# Altium schematic symbol library kmilo17pet-NSC_LDO.SchLib: 2675 symbols (part 48 of 65)
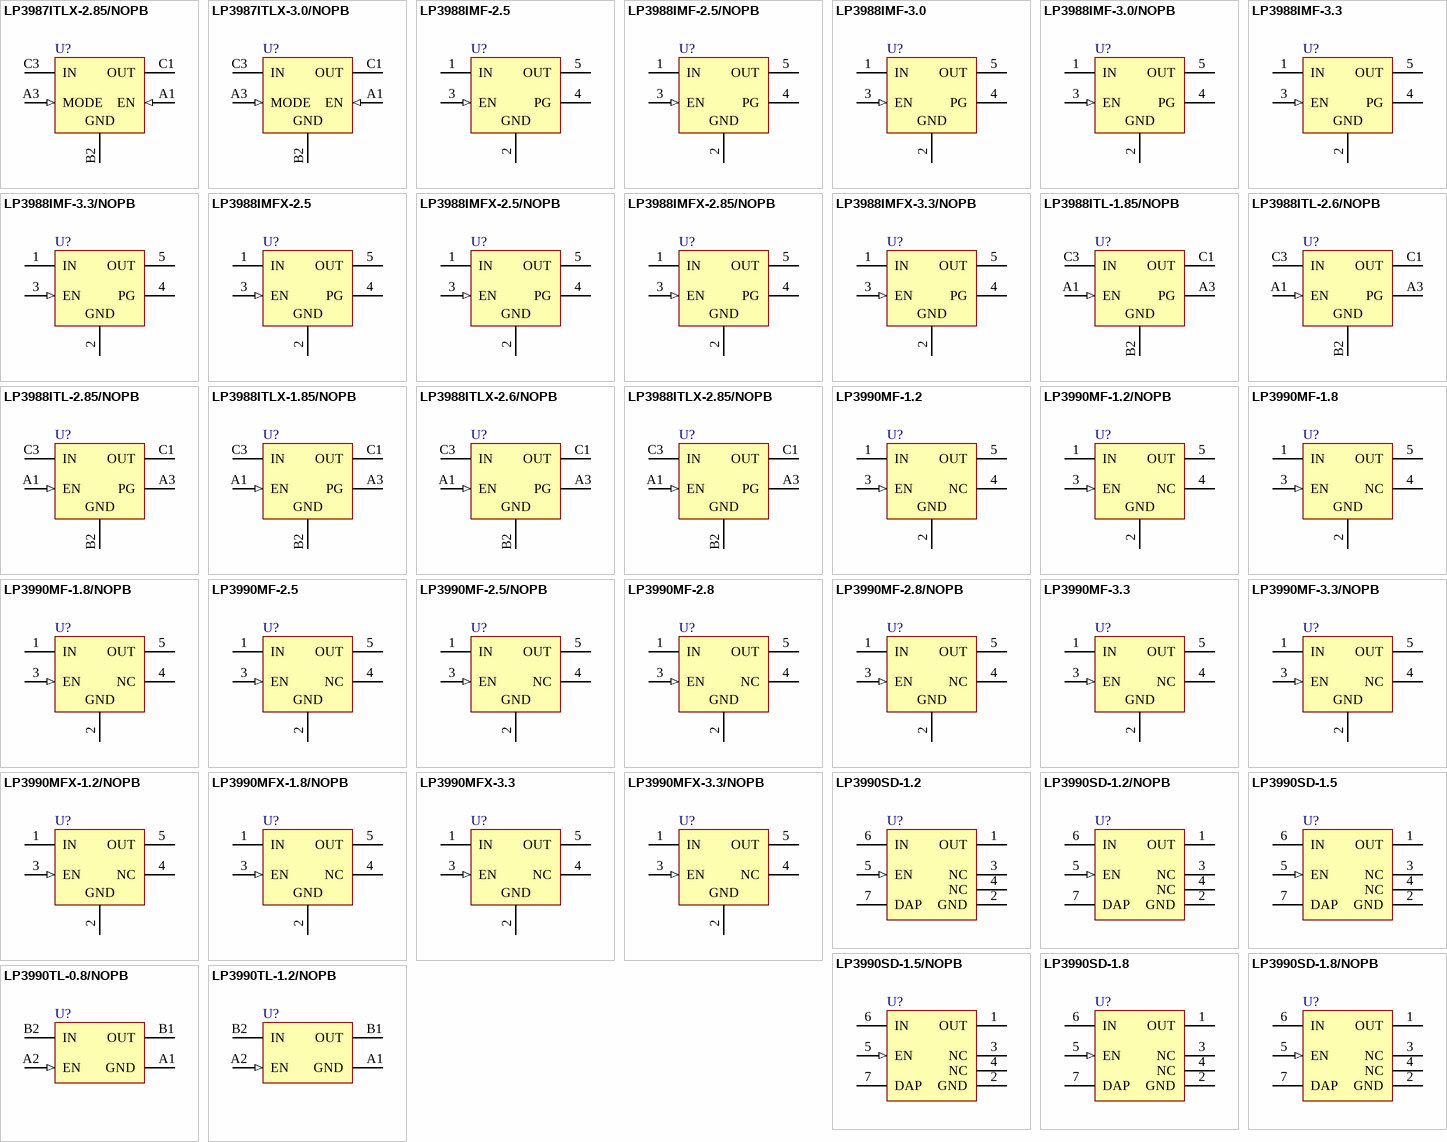
[diagram p114: symbols LP3987ITLX-2.85/NOPB to LP3990TL-1.2/NOPB]

## LP3990SD-1.2/NOPB
designator U?
150mA Linear Voltage Regulator for Digital Applications, 6-pin LLP, Pb-Free; PartNumber: LP3990SD-1.2/NOPB; Manufacturer: National Semiconductor; PackageTopMarking: ZXYTT*L086B; PowerWise: N; CompType: LDO IC; High-Reliability: Y; DatasheetVersion: Oct-2005; PackageVersion: revA, Jul-2003; PackageReference: SDE06A; PackageDescription: LLP, Plastic, Dual, 3 x 3 x 0.8mm Body, 6 Lead, 0.95mm Pitch, No Pullback; RoHS: Y; PinCount: 6; ComponentLink1Description: Manufacturer URL; ComponentLink1URL: http://www.national.com/; ComponentLink2Description: LP3990 Datasheet; ComponentLink2URL: http://www.national.com/ds/LP/LP3990.pdf; ComponentLink3Description: LP3990 Web Page; ComponentLink3URL: http://www.national.com/pf/LP/LP3990.html; ComponentLink4Description: SDE06A Package Page; ComponentLink4URL: http://www.national.com/packaging/folders/sde06a.html
footprint SDE06A_full (SON, 6-Leads, Body 3x3 mm, Pitch 0.95mm, Full Paste, NSC Recommended)
footprint SDE06A_quad (SON, 6-Leads, Body 3x3 mm, Pitch 0.95mm, Quad Paste, NSC Recommended)
pins: 1 OUT (power), 2 GND (power), 3 NC, 4 NC, 5 EN (in), 6 IN (power), 7 DAP (power)

## LP3990SD-1.5
designator U?
150mA Linear Voltage Regulator for Digital Applications, 6-pin LLP; PartNumber: LP3990SD-1.5; Manufacturer: National Semiconductor; PackageTopMarking: ZXYTT*L087B; PowerWise: N; CompType: LDO IC; High-Reliability: Y; DatasheetVersion: Oct-2005; PackageVersion: revA, Jul-2003; PackageReference: SDE06A; PackageDescription: LLP, Plastic, Dual, 3 x 3 x 0.8mm Body, 6 Lead, 0.95mm Pitch, No Pullback; RoHS: N; PinCount: 6; ComponentLink1Description: Manufacturer URL; ComponentLink1URL: http://www.national.com/; ComponentLink2Description: LP3990 Datasheet; ComponentLink2URL: http://www.national.com/ds/LP/LP3990.pdf; ComponentLink3Description: LP3990 Web Page; ComponentLink3URL: http://www.national.com/pf/LP/LP3990.html; ComponentLink4Description: SDE06A Package Page; ComponentLink4URL: http://www.national.com/packaging/folders/sde06a.html
footprint SDE06A_full (SON, 6-Leads, Body 3x3 mm, Pitch 0.95mm, Full Paste, NSC Recommended)
footprint SDE06A_quad (SON, 6-Leads, Body 3x3 mm, Pitch 0.95mm, Quad Paste, NSC Recommended)
pins: 1 OUT (power), 2 GND (power), 3 NC, 4 NC, 5 EN (in), 6 IN (power), 7 DAP (power)

## LP3990SD-1.5/NOPB
designator U?
150mA Linear Voltage Regulator for Digital Applications, 6-pin LLP, Pb-Free; PartNumber: LP3990SD-1.5/NOPB; Manufacturer: National Semiconductor; PackageTopMarking: ZXYTT*L087B; PowerWise: N; CompType: LDO IC; High-Reliability: Y; DatasheetVersion: Oct-2005; PackageVersion: revA, Jul-2003; PackageReference: SDE06A; PackageDescription: LLP, Plastic, Dual, 3 x 3 x 0.8mm Body, 6 Lead, 0.95mm Pitch, No Pullback; RoHS: Y; PinCount: 6; ComponentLink1Description: Manufacturer URL; ComponentLink1URL: http://www.national.com/; ComponentLink2Description: LP3990 Datasheet; ComponentLink2URL: http://www.national.com/ds/LP/LP3990.pdf; ComponentLink3Description: LP3990 Web Page; ComponentLink3URL: http://www.national.com/pf/LP/LP3990.html; ComponentLink4Description: SDE06A Package Page; ComponentLink4URL: http://www.national.com/packaging/folders/sde06a.html
footprint SDE06A_full (SON, 6-Leads, Body 3x3 mm, Pitch 0.95mm, Full Paste, NSC Recommended)
footprint SDE06A_quad (SON, 6-Leads, Body 3x3 mm, Pitch 0.95mm, Quad Paste, NSC Recommended)
pins: 1 OUT (power), 2 GND (power), 3 NC, 4 NC, 5 EN (in), 6 IN (power), 7 DAP (power)

## LP3990SD-1.8
designator U?
150mA Linear Voltage Regulator for Digital Applications, 6-pin LLP; PartNumber: LP3990SD-1.8; Manufacturer: National Semiconductor; PackageTopMarking: ZXYTT*L088B; PowerWise: N; CompType: LDO IC; High-Reliability: Y; DatasheetVersion: Oct-2005; PackageVersion: revA, Jul-2003; PackageReference: SDE06A; PackageDescription: LLP, Plastic, Dual, 3 x 3 x 0.8mm Body, 6 Lead, 0.95mm Pitch, No Pullback; RoHS: N; PinCount: 6; ComponentLink1Description: Manufacturer URL; ComponentLink1URL: http://www.national.com/; ComponentLink2Description: LP3990 Datasheet; ComponentLink2URL: http://www.national.com/ds/LP/LP3990.pdf; ComponentLink3Description: LP3990 Web Page; ComponentLink3URL: http://www.national.com/pf/LP/LP3990.html; ComponentLink4Description: SDE06A Package Page; ComponentLink4URL: http://www.national.com/packaging/folders/sde06a.html
footprint SDE06A_full (SON, 6-Leads, Body 3x3 mm, Pitch 0.95mm, Full Paste, NSC Recommended)
footprint SDE06A_quad (SON, 6-Leads, Body 3x3 mm, Pitch 0.95mm, Quad Paste, NSC Recommended)
pins: 1 OUT (power), 2 GND (power), 3 NC, 4 NC, 5 EN (in), 6 IN (power), 7 DAP (power)

## LP3990SD-1.8/NOPB
designator U?
150mA Linear Voltage Regulator for Digital Applications, 6-pin LLP, Pb-Free; PartNumber: LP3990SD-1.8/NOPB; Manufacturer: National Semiconductor; PackageTopMarking: ZXYTT*L088B; PowerWise: N; CompType: LDO IC; High-Reliability: Y; DatasheetVersion: Oct-2005; PackageVersion: revA, Jul-2003; PackageReference: SDE06A; PackageDescription: LLP, Plastic, Dual, 3 x 3 x 0.8mm Body, 6 Lead, 0.95mm Pitch, No Pullback; RoHS: Y; PinCount: 6; ComponentLink1Description: Manufacturer URL; ComponentLink1URL: http://www.national.com/; ComponentLink2Description: LP3990 Datasheet; ComponentLink2URL: http://www.national.com/ds/LP/LP3990.pdf; ComponentLink3Description: LP3990 Web Page; ComponentLink3URL: http://www.national.com/pf/LP/LP3990.html; ComponentLink4Description: SDE06A Package Page; ComponentLink4URL: http://www.national.com/packaging/folders/sde06a.html
footprint SDE06A_full (SON, 6-Leads, Body 3x3 mm, Pitch 0.95mm, Full Paste, NSC Recommended)
footprint SDE06A_quad (SON, 6-Leads, Body 3x3 mm, Pitch 0.95mm, Quad Paste, NSC Recommended)
pins: 1 OUT (power), 2 GND (power), 3 NC, 4 NC, 5 EN (in), 6 IN (power), 7 DAP (power)

## LP3990TL-0.8/NOPB
designator U?
150mA Linear Voltage Regulator for Digital Applications, 4-pin Micro SMD, Pb-Free; PartNumber: LP3990TL-0.8/NOPB; Manufacturer: National Semiconductor; PackageTopMarking: X*I; PowerWise: N; CompType: LDO IC; High-Reliability: Y; DatasheetVersion: Oct-2005; PackageVersion: revD, Mar-2005; PackageReference: TLA04AMA; PackageDescription: Thin Micro SMD, 4 Bump (Large), 0.5mm Pitch; RoHS: Y; PinCount: 4; Code_JEDEC: MO-211-BA; ComponentLink1Description: Manufacturer URL; ComponentLink1URL: http://www.national.com/; ComponentLink2Description: LP3990 Datasheet; ComponentLink2URL: http://www.national.com/ds/LP/LP3990.pdf; ComponentLink3Description: LP3990 Web Page; ComponentLink3URL: http://www.national.com/pf/LP/LP3990.html; ComponentLink4Description: TLA04AMA Package Page; ComponentLink4URL: http://www.national.com/packaging/folders/tla04ama.html
footprint TLA04AMA (Micro SMD, 4-Leads, Body 1.29x1.01mm, Pitch 0.5mm, NSC Recommended)
pins: A1 GND (power), A2 EN (in), B1 OUT (power), B2 IN (power)

## LP3990TL-1.2/NOPB
designator U?
150mA Linear Voltage Regulator for Digital Applications, 4-pin Micro SMD, Pb-Free; PartNumber: LP3990TL-1.2/NOPB; Manufacturer: National Semiconductor; PackageTopMarking: X*I; PowerWise: N; CompType: LDO IC; High-Reliability: Y; DatasheetVersion: Oct-2005; PackageVersion: revD, Mar-2005; PackageReference: TLA04AMA; PackageDescription: Thin Micro SMD, 4 Bump (Large), 0.5mm Pitch; RoHS: Y; PinCount: 4; Code_JEDEC: MO-211-BA; ComponentLink1Description: Manufacturer URL; ComponentLink1URL: http://www.national.com/; ComponentLink2Description: LP3990 Datasheet; ComponentLink2URL: http://www.national.com/ds/LP/LP3990.pdf; ComponentLink3Description: LP3990 Web Page; ComponentLink3URL: http://www.national.com/pf/LP/LP3990.html; ComponentLink4Description: TLA04AMA Package Page; ComponentLink4URL: http://www.national.com/packaging/folders/tla04ama.html
footprint TLA04AMA (Micro SMD, 4-Leads, Body 1.29x1.01mm, Pitch 0.5mm, NSC Recommended)
pins: A1 GND (power), A2 EN (in), B1 OUT (power), B2 IN (power)

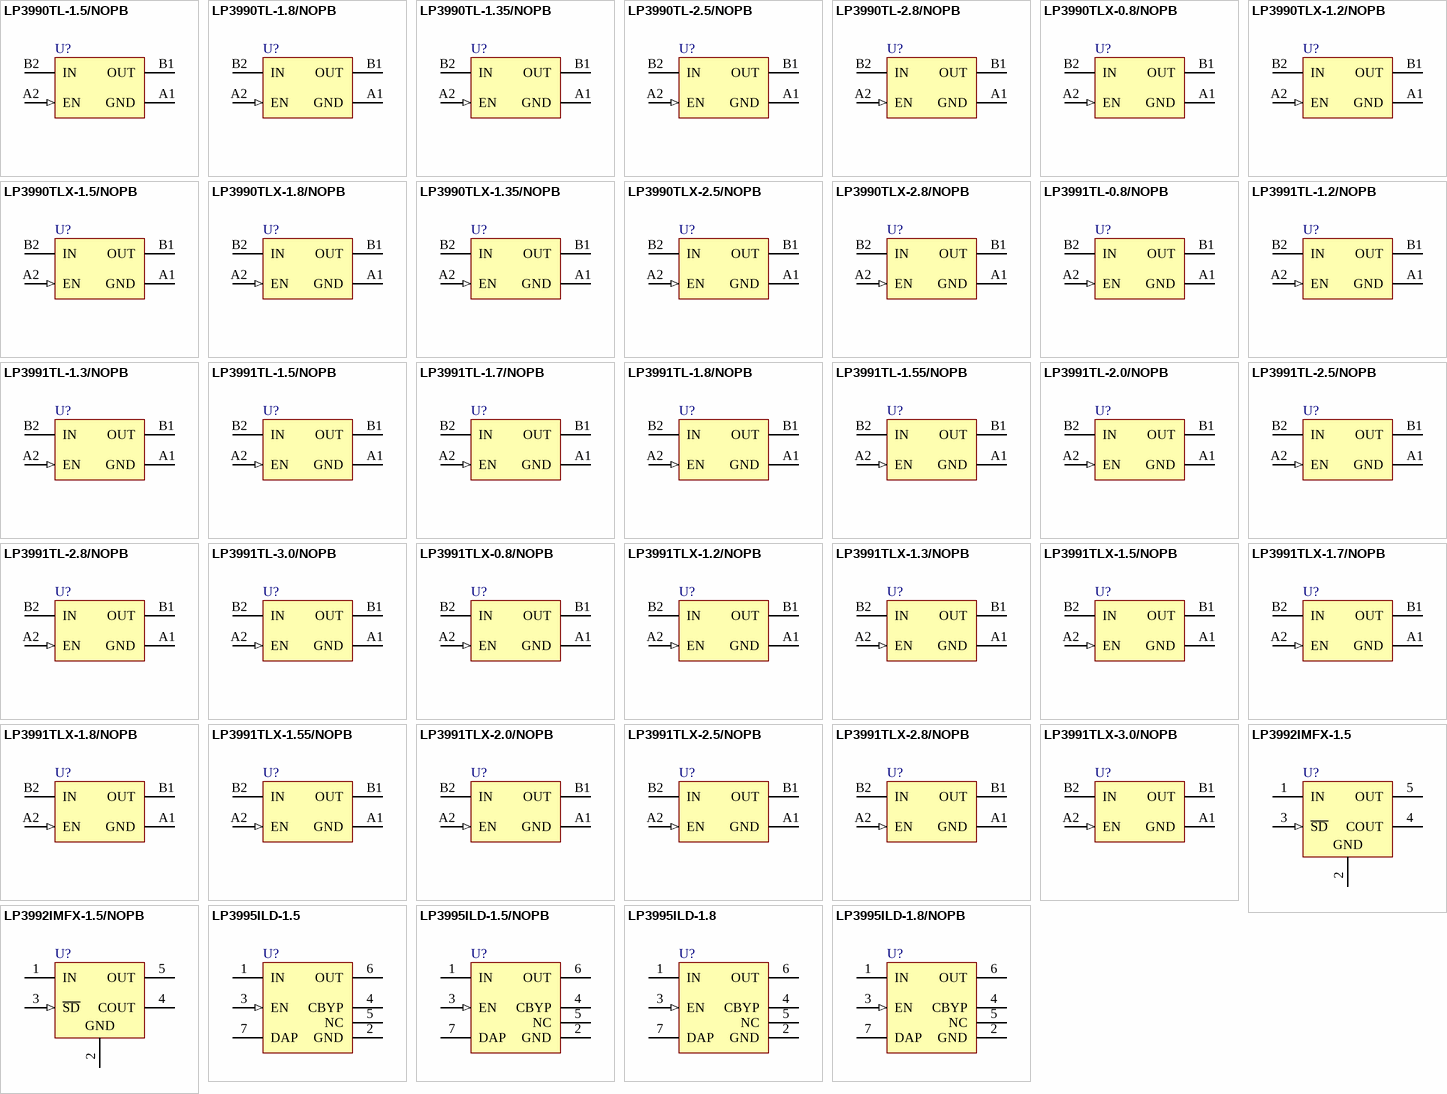
[diagram p49: symbols LP3990TL-1.5/NOPB to LP3995ILD-1.8/NOPB]

## LP3990TL-1.5/NOPB
designator U?
150mA Linear Voltage Regulator for Digital Applications, 4-pin Micro SMD, Pb-Free; PartNumber: LP3990TL-1.5/NOPB; Manufacturer: National Semiconductor; PackageTopMarking: X*I; PowerWise: N; CompType: LDO IC; High-Reliability: Y; DatasheetVersion: Oct-2005; PackageVersion: revD, Mar-2005; PackageReference: TLA04AMA; PackageDescription: Thin Micro SMD, 4 Bump (Large), 0.5mm Pitch; RoHS: Y; PinCount: 4; Code_JEDEC: MO-211-BA; ComponentLink1Description: Manufacturer URL; ComponentLink1URL: http://www.national.com/; ComponentLink2Description: LP3990 Datasheet; ComponentLink2URL: http://www.national.com/ds/LP/LP3990.pdf; ComponentLink3Description: LP3990 Web Page; ComponentLink3URL: http://www.national.com/pf/LP/LP3990.html; ComponentLink4Description: TLA04AMA Package Page; ComponentLink4URL: http://www.national.com/packaging/folders/tla04ama.html
footprint TLA04AMA (Micro SMD, 4-Leads, Body 1.29x1.01mm, Pitch 0.5mm, NSC Recommended)
pins: A1 GND (power), A2 EN (in), B1 OUT (power), B2 IN (power)

## LP3990TL-1.8/NOPB
designator U?
150mA Linear Voltage Regulator for Digital Applications, 4-pin Micro SMD, Pb-Free; PartNumber: LP3990TL-1.8/NOPB; Manufacturer: National Semiconductor; PackageTopMarking: X*I; PowerWise: N; CompType: LDO IC; High-Reliability: Y; DatasheetVersion: Oct-2005; PackageVersion: revD, Mar-2005; PackageReference: TLA04AMA; PackageDescription: Thin Micro SMD, 4 Bump (Large), 0.5mm Pitch; RoHS: Y; PinCount: 4; Code_JEDEC: MO-211-BA; ComponentLink1Description: Manufacturer URL; ComponentLink1URL: http://www.national.com/; ComponentLink2Description: LP3990 Datasheet; ComponentLink2URL: http://www.national.com/ds/LP/LP3990.pdf; ComponentLink3Description: LP3990 Web Page; ComponentLink3URL: http://www.national.com/pf/LP/LP3990.html; ComponentLink4Description: TLA04AMA Package Page; ComponentLink4URL: http://www.national.com/packaging/folders/tla04ama.html
footprint TLA04AMA (Micro SMD, 4-Leads, Body 1.29x1.01mm, Pitch 0.5mm, NSC Recommended)
pins: A1 GND (power), A2 EN (in), B1 OUT (power), B2 IN (power)

## LP3990TL-1.35/NOPB
designator U?
150mA Linear Voltage Regulator for Digital Applications, 4-pin Micro SMD, Pb-Free; PartNumber: LP3990TL-1.35/NOPB; Manufacturer: National Semiconductor; PackageTopMarking: X*I; PowerWise: N; CompType: LDO IC; High-Reliability: Y; DatasheetVersion: Oct-2005; PackageVersion: revD, Mar-2005; PackageReference: TLA04AMA; PackageDescription: Thin Micro SMD, 4 Bump (Large), 0.5mm Pitch; RoHS: Y; PinCount: 4; Code_JEDEC: MO-211-BA; ComponentLink1Description: Manufacturer URL; ComponentLink1URL: http://www.national.com/; ComponentLink2Description: LP3990 Datasheet; ComponentLink2URL: http://www.national.com/ds/LP/LP3990.pdf; ComponentLink3Description: LP3990 Web Page; ComponentLink3URL: http://www.national.com/pf/LP/LP3990.html; ComponentLink4Description: TLA04AMA Package Page; ComponentLink4URL: http://www.national.com/packaging/folders/tla04ama.html
footprint TLA04AMA (Micro SMD, 4-Leads, Body 1.29x1.01mm, Pitch 0.5mm, NSC Recommended)
pins: A1 GND (power), A2 EN (in), B1 OUT (power), B2 IN (power)

## LP3990TL-2.5/NOPB
designator U?
150mA Linear Voltage Regulator for Digital Applications, 4-pin Micro SMD, Pb-Free; PartNumber: LP3990TL-2.5/NOPB; Manufacturer: National Semiconductor; PackageTopMarking: X*I; PowerWise: N; CompType: LDO IC; High-Reliability: Y; DatasheetVersion: Oct-2005; PackageVersion: revD, Mar-2005; PackageReference: TLA04AMA; PackageDescription: Thin Micro SMD, 4 Bump (Large), 0.5mm Pitch; RoHS: Y; PinCount: 4; Code_JEDEC: MO-211-BA; ComponentLink1Description: Manufacturer URL; ComponentLink1URL: http://www.national.com/; ComponentLink2Description: LP3990 Datasheet; ComponentLink2URL: http://www.national.com/ds/LP/LP3990.pdf; ComponentLink3Description: LP3990 Web Page; ComponentLink3URL: http://www.national.com/pf/LP/LP3990.html; ComponentLink4Description: TLA04AMA Package Page; ComponentLink4URL: http://www.national.com/packaging/folders/tla04ama.html
footprint TLA04AMA (Micro SMD, 4-Leads, Body 1.29x1.01mm, Pitch 0.5mm, NSC Recommended)
pins: A1 GND (power), A2 EN (in), B1 OUT (power), B2 IN (power)

## LP3990TL-2.8/NOPB
designator U?
150mA Linear Voltage Regulator for Digital Applications, 4-pin Micro SMD, Pb-Free; PartNumber: LP3990TL-2.8/NOPB; Manufacturer: National Semiconductor; PackageTopMarking: X*I; PowerWise: N; CompType: LDO IC; High-Reliability: Y; DatasheetVersion: Oct-2005; PackageVersion: revD, Mar-2005; PackageReference: TLA04AMA; PackageDescription: Thin Micro SMD, 4 Bump (Large), 0.5mm Pitch; RoHS: Y; PinCount: 4; Code_JEDEC: MO-211-BA; ComponentLink1Description: Manufacturer URL; ComponentLink1URL: http://www.national.com/; ComponentLink2Description: LP3990 Datasheet; ComponentLink2URL: http://www.national.com/ds/LP/LP3990.pdf; ComponentLink3Description: LP3990 Web Page; ComponentLink3URL: http://www.national.com/pf/LP/LP3990.html; ComponentLink4Description: TLA04AMA Package Page; ComponentLink4URL: http://www.national.com/packaging/folders/tla04ama.html
footprint TLA04AMA (Micro SMD, 4-Leads, Body 1.29x1.01mm, Pitch 0.5mm, NSC Recommended)
pins: A1 GND (power), A2 EN (in), B1 OUT (power), B2 IN (power)

## LP3990TLX-0.8/NOPB
designator U?
150mA Linear Voltage Regulator for Digital Applications, 4-pin Micro SMD, Pb-Free; PartNumber: LP3990TLX-0.8/NOPB; Manufacturer: National Semiconductor; PackageTopMarking: X*I; PowerWise: N; CompType: LDO IC; High-Reliability: Y; DatasheetVersion: Oct-2005; PackageVersion: revD, Mar-2005; PackageReference: TLA04AMA; PackageDescription: Thin Micro SMD, 4 Bump (Large), 0.5mm Pitch; RoHS: Y; PinCount: 4; Code_JEDEC: MO-211-BA; ComponentLink1Description: Manufacturer URL; ComponentLink1URL: http://www.national.com/; ComponentLink2Description: LP3990 Datasheet; ComponentLink2URL: http://www.national.com/ds/LP/LP3990.pdf; ComponentLink3Description: LP3990 Web Page; ComponentLink3URL: http://www.national.com/pf/LP/LP3990.html; ComponentLink4Description: TLA04AMA Package Page; ComponentLink4URL: http://www.national.com/packaging/folders/tla04ama.html
footprint TLA04AMA (Micro SMD, 4-Leads, Body 1.29x1.01mm, Pitch 0.5mm, NSC Recommended)
pins: A1 GND (power), A2 EN (in), B1 OUT (power), B2 IN (power)

## LP3990TLX-1.2/NOPB
designator U?
150mA Linear Voltage Regulator for Digital Applications, 4-pin Micro SMD, Pb-Free; PartNumber: LP3990TLX-1.2/NOPB; Manufacturer: National Semiconductor; PackageTopMarking: X*I; PowerWise: N; CompType: LDO IC; High-Reliability: Y; DatasheetVersion: Oct-2005; PackageVersion: revD, Mar-2005; PackageReference: TLA04AMA; PackageDescription: Thin Micro SMD, 4 Bump (Large), 0.5mm Pitch; RoHS: Y; PinCount: 4; Code_JEDEC: MO-211-BA; ComponentLink1Description: Manufacturer URL; ComponentLink1URL: http://www.national.com/; ComponentLink2Description: LP3990 Datasheet; ComponentLink2URL: http://www.national.com/ds/LP/LP3990.pdf; ComponentLink3Description: LP3990 Web Page; ComponentLink3URL: http://www.national.com/pf/LP/LP3990.html; ComponentLink4Description: TLA04AMA Package Page; ComponentLink4URL: http://www.national.com/packaging/folders/tla04ama.html
footprint TLA04AMA (Micro SMD, 4-Leads, Body 1.29x1.01mm, Pitch 0.5mm, NSC Recommended)
pins: A1 GND (power), A2 EN (in), B1 OUT (power), B2 IN (power)

## LP3990TLX-1.5/NOPB
designator U?
150mA Linear Voltage Regulator for Digital Applications, 4-pin Micro SMD, Pb-Free; PartNumber: LP3990TLX-1.5/NOPB; Manufacturer: National Semiconductor; PackageTopMarking: X*I; PowerWise: N; CompType: LDO IC; High-Reliability: Y; DatasheetVersion: Oct-2005; PackageVersion: revD, Mar-2005; PackageReference: TLA04AMA; PackageDescription: Thin Micro SMD, 4 Bump (Large), 0.5mm Pitch; RoHS: Y; PinCount: 4; Code_JEDEC: MO-211-BA; ComponentLink1Description: Manufacturer URL; ComponentLink1URL: http://www.national.com/; ComponentLink2Description: LP3990 Datasheet; ComponentLink2URL: http://www.national.com/ds/LP/LP3990.pdf; ComponentLink3Description: LP3990 Web Page; ComponentLink3URL: http://www.national.com/pf/LP/LP3990.html; ComponentLink4Description: TLA04AMA Package Page; ComponentLink4URL: http://www.national.com/packaging/folders/tla04ama.html
footprint TLA04AMA (Micro SMD, 4-Leads, Body 1.29x1.01mm, Pitch 0.5mm, NSC Recommended)
pins: A1 GND (power), A2 EN (in), B1 OUT (power), B2 IN (power)

## LP3990TLX-1.8/NOPB
designator U?
150mA Linear Voltage Regulator for Digital Applications, 4-pin Micro SMD, Pb-Free; PartNumber: LP3990TLX-1.8/NOPB; Manufacturer: National Semiconductor; PackageTopMarking: X*I; PowerWise: N; CompType: LDO IC; High-Reliability: Y; DatasheetVersion: Oct-2005; PackageVersion: revD, Mar-2005; PackageReference: TLA04AMA; PackageDescription: Thin Micro SMD, 4 Bump (Large), 0.5mm Pitch; RoHS: Y; PinCount: 4; Code_JEDEC: MO-211-BA; ComponentLink1Description: Manufacturer URL; ComponentLink1URL: http://www.national.com/; ComponentLink2Description: LP3990 Datasheet; ComponentLink2URL: http://www.national.com/ds/LP/LP3990.pdf; ComponentLink3Description: LP3990 Web Page; ComponentLink3URL: http://www.national.com/pf/LP/LP3990.html; ComponentLink4Description: TLA04AMA Package Page; ComponentLink4URL: http://www.national.com/packaging/folders/tla04ama.html
footprint TLA04AMA (Micro SMD, 4-Leads, Body 1.29x1.01mm, Pitch 0.5mm, NSC Recommended)
pins: A1 GND (power), A2 EN (in), B1 OUT (power), B2 IN (power)

## LP3990TLX-1.35/NOPB
designator U?
150mA Linear Voltage Regulator for Digital Applications, 4-pin Micro SMD, Pb-Free; PartNumber: LP3990TLX-1.35/NOPB; Manufacturer: National Semiconductor; PackageTopMarking: X*I; PowerWise: N; CompType: LDO IC; High-Reliability: Y; DatasheetVersion: Oct-2005; PackageVersion: revD, Mar-2005; PackageReference: TLA04AMA; PackageDescription: Thin Micro SMD, 4 Bump (Large), 0.5mm Pitch; RoHS: Y; PinCount: 4; Code_JEDEC: MO-211-BA; ComponentLink1Description: Manufacturer URL; ComponentLink1URL: http://www.national.com/; ComponentLink2Description: LP3990 Datasheet; ComponentLink2URL: http://www.national.com/ds/LP/LP3990.pdf; ComponentLink3Description: LP3990 Web Page; ComponentLink3URL: http://www.national.com/pf/LP/LP3990.html; ComponentLink4Description: TLA04AMA Package Page; ComponentLink4URL: http://www.national.com/packaging/folders/tla04ama.html
footprint TLA04AMA (Micro SMD, 4-Leads, Body 1.29x1.01mm, Pitch 0.5mm, NSC Recommended)
pins: A1 GND (power), A2 EN (in), B1 OUT (power), B2 IN (power)

## LP3990TLX-2.5/NOPB
designator U?
150mA Linear Voltage Regulator for Digital Applications, 4-pin Micro SMD, Pb-Free; PartNumber: LP3990TLX-2.5/NOPB; Manufacturer: National Semiconductor; PackageTopMarking: X*I; PowerWise: N; CompType: LDO IC; High-Reliability: Y; DatasheetVersion: Oct-2005; PackageVersion: revD, Mar-2005; PackageReference: TLA04AMA; PackageDescription: Thin Micro SMD, 4 Bump (Large), 0.5mm Pitch; RoHS: Y; PinCount: 4; Code_JEDEC: MO-211-BA; ComponentLink1Description: Manufacturer URL; ComponentLink1URL: http://www.national.com/; ComponentLink2Description: LP3990 Datasheet; ComponentLink2URL: http://www.national.com/ds/LP/LP3990.pdf; ComponentLink3Description: LP3990 Web Page; ComponentLink3URL: http://www.national.com/pf/LP/LP3990.html; ComponentLink4Description: TLA04AMA Package Page; ComponentLink4URL: http://www.national.com/packaging/folders/tla04ama.html
footprint TLA04AMA (Micro SMD, 4-Leads, Body 1.29x1.01mm, Pitch 0.5mm, NSC Recommended)
pins: A1 GND (power), A2 EN (in), B1 OUT (power), B2 IN (power)

## LP3990TLX-2.8/NOPB
designator U?
150mA Linear Voltage Regulator for Digital Applications, 4-pin Micro SMD, Pb-Free; PartNumber: LP3990TLX-2.8/NOPB; Manufacturer: National Semiconductor; PackageTopMarking: X*I; PowerWise: N; CompType: LDO IC; High-Reliability: Y; DatasheetVersion: Oct-2005; PackageVersion: revD, Mar-2005; PackageReference: TLA04AMA; PackageDescription: Thin Micro SMD, 4 Bump (Large), 0.5mm Pitch; RoHS: Y; PinCount: 4; Code_JEDEC: MO-211-BA; ComponentLink1Description: Manufacturer URL; ComponentLink1URL: http://www.national.com/; ComponentLink2Description: LP3990 Datasheet; ComponentLink2URL: http://www.national.com/ds/LP/LP3990.pdf; ComponentLink3Description: LP3990 Web Page; ComponentLink3URL: http://www.national.com/pf/LP/LP3990.html; ComponentLink4Description: TLA04AMA Package Page; ComponentLink4URL: http://www.national.com/packaging/folders/tla04ama.html
footprint TLA04AMA (Micro SMD, 4-Leads, Body 1.29x1.01mm, Pitch 0.5mm, NSC Recommended)
pins: A1 GND (power), A2 EN (in), B1 OUT (power), B2 IN (power)

## LP3991TL-0.8/NOPB
designator U?
300mA Linear Voltage Regulator for Digital Applications, 4-pin Micro SMD, Pb-Free; PartNumber: LP3991TL-0.8/NOPB; Manufacturer: National Semiconductor; PackageTopMarking: X*I; PowerWise: N; CompType: LDO IC; High-Reliability: Y; DatasheetVersion: Sep-2008; PackageVersion: revD, Mar-2005; PackageReference: TLA04ZTA; PackageDescription: Thin Micro SMD, 4 Bump (Large), 0.5mm Pitch; RoHS: Y; PinCount: 4; Code_JEDEC: MO-211-BA; ComponentLink1Description: Manufacturer URL; ComponentLink1URL: http://www.national.com/; ComponentLink2Description: LP3991 Datasheet; ComponentLink2URL: http://www.national.com/ds/LP/LP3991.pdf; ComponentLink3Description: LP3991 Web Page; ComponentLink3URL: http://www.national.com/pf/LP/LP3991.html; ComponentLink4Description: TLA04ZTA Package Page; ComponentLink4URL: http://www.national.com/packaging/folders/tla04zta.html
footprint TLA04ZTA (Micro SMD, 4-Leads, Body 1.45x0.96mm, Pitch 0.5mm, NSC Recommended)
pins: A1 GND (power), A2 EN (in), B1 OUT (power), B2 IN (power)

## LP3991TL-1.2/NOPB
designator U?
300mA Linear Voltage Regulator for Digital Applications, 4-pin Micro SMD, Pb-Free; PartNumber: LP3991TL-1.2/NOPB; Manufacturer: National Semiconductor; PackageTopMarking: X*I; PowerWise: Y; CompType: LDO IC; DatasheetVersion: Sep-2008; PackageVersion: revD, Mar-2005; PackageReference: TLA04ZTA; PackageDescription: Thin Micro SMD, 4 Bump (Large), 0.5mm Pitch; RoHS: Y; PinCount: 4; High-Reliability: Y; Code_JEDEC: MO-211-BA; ComponentLink1Description: Manufacturer URL; ComponentLink1URL: http://www.national.com/; ComponentLink2Description: LP3991 Datasheet; ComponentLink2URL: http://www.national.com/ds/LP/LP3991.pdf; ComponentLink3Description: LP3991 Web Page; ComponentLink3URL: http://www.national.com/pf/LP/LP3991.html; ComponentLink4Description: TLA04ZTA Package Page; ComponentLink4URL: http://www.national.com/packaging/folders/tla04zta.html
footprint TLA04ZTA (Micro SMD, 4-Leads, Body 1.45x0.96mm, Pitch 0.5mm, NSC Recommended)
pins: A1 GND (power), A2 EN (in), B1 OUT (power), B2 IN (power)

## LP3991TL-1.3/NOPB
designator U?
300mA Linear Voltage Regulator for Digital Applications, 4-pin Micro SMD, Pb-Free; PartNumber: LP3991TL-1.3/NOPB; Manufacturer: National Semiconductor; PackageTopMarking: X*I; PowerWise: Y; CompType: LDO IC; DatasheetVersion: Sep-2008; PackageVersion: revD, Mar-2005; PackageReference: TLA04ZTA; PackageDescription: Thin Micro SMD, 4 Bump (Large), 0.5mm Pitch; RoHS: Y; PinCount: 4; High-Reliability: Y; Code_JEDEC: MO-211-BA; ComponentLink1Description: Manufacturer URL; ComponentLink1URL: http://www.national.com/; ComponentLink2Description: LP3991 Datasheet; ComponentLink2URL: http://www.national.com/ds/LP/LP3991.pdf; ComponentLink3Description: LP3991 Web Page; ComponentLink3URL: http://www.national.com/pf/LP/LP3991.html; ComponentLink4Description: TLA04ZTA Package Page; ComponentLink4URL: http://www.national.com/packaging/folders/tla04zta.html
footprint TLA04ZTA (Micro SMD, 4-Leads, Body 1.45x0.96mm, Pitch 0.5mm, NSC Recommended)
pins: A1 GND (power), A2 EN (in), B1 OUT (power), B2 IN (power)

## LP3991TL-1.5/NOPB
designator U?
300mA Linear Voltage Regulator for Digital Applications, 4-pin Micro SMD, Pb-Free; PartNumber: LP3991TL-1.5/NOPB; Manufacturer: National Semiconductor; PackageTopMarking: X*I; PowerWise: Y; CompType: LDO IC; DatasheetVersion: Sep-2008; PackageVersion: revD, Mar-2005; PackageReference: TLA04ZTA; PackageDescription: Thin Micro SMD, 4 Bump (Large), 0.5mm Pitch; RoHS: Y; PinCount: 4; High-Reliability: Y; Code_JEDEC: MO-211-BA; ComponentLink1Description: Manufacturer URL; ComponentLink1URL: http://www.national.com/; ComponentLink2Description: LP3991 Datasheet; ComponentLink2URL: http://www.national.com/ds/LP/LP3991.pdf; ComponentLink3Description: LP3991 Web Page; ComponentLink3URL: http://www.national.com/pf/LP/LP3991.html; ComponentLink4Description: TLA04ZTA Package Page; ComponentLink4URL: http://www.national.com/packaging/folders/tla04zta.html
footprint TLA04ZTA (Micro SMD, 4-Leads, Body 1.45x0.96mm, Pitch 0.5mm, NSC Recommended)
pins: A1 GND (power), A2 EN (in), B1 OUT (power), B2 IN (power)

## LP3991TL-1.7/NOPB
designator U?
300mA Linear Voltage Regulator for Digital Applications, 4-pin Micro SMD, Pb-Free; PartNumber: LP3991TL-1.7/NOPB; Manufacturer: National Semiconductor; PackageTopMarking: X*I; PowerWise: N; CompType: LDO IC; High-Reliability: Y; DatasheetVersion: Sep-2008; PackageVersion: revD, Mar-2005; PackageReference: TLA04ZTA; PackageDescription: Thin Micro SMD, 4 Bump (Large), 0.5mm Pitch; RoHS: Y; PinCount: 4; Code_JEDEC: MO-211-BA; ComponentLink1Description: Manufacturer URL; ComponentLink1URL: http://www.national.com/; ComponentLink2Description: LP3991 Datasheet; ComponentLink2URL: http://www.national.com/ds/LP/LP3991.pdf; ComponentLink3Description: LP3991 Web Page; ComponentLink3URL: http://www.national.com/pf/LP/LP3991.html; ComponentLink4Description: TLA04ZTA Package Page; ComponentLink4URL: http://www.national.com/packaging/folders/tla04zta.html
footprint TLA04ZTA (Micro SMD, 4-Leads, Body 1.45x0.96mm, Pitch 0.5mm, NSC Recommended)
pins: A1 GND (power), A2 EN (in), B1 OUT (power), B2 IN (power)

## LP3991TL-1.8/NOPB
designator U?
300mA Linear Voltage Regulator for Digital Applications, 4-pin Micro SMD, Pb-Free; PartNumber: LP3991TL-1.8/NOPB; Manufacturer: National Semiconductor; PackageTopMarking: X*I; PowerWise: N; CompType: LDO IC; High-Reliability: Y; DatasheetVersion: Sep-2008; PackageVersion: revD, Mar-2005; PackageReference: TLA04ZTA; PackageDescription: Thin Micro SMD, 4 Bump (Large), 0.5mm Pitch; RoHS: Y; PinCount: 4; Code_JEDEC: MO-211-BA; ComponentLink1Description: Manufacturer URL; ComponentLink1URL: http://www.national.com/; ComponentLink2Description: LP3991 Datasheet; ComponentLink2URL: http://www.national.com/ds/LP/LP3991.pdf; ComponentLink3Description: LP3991 Web Page; ComponentLink3URL: http://www.national.com/pf/LP/LP3991.html; ComponentLink4Description: TLA04ZTA Package Page; ComponentLink4URL: http://www.national.com/packaging/folders/tla04zta.html
footprint TLA04ZTA (Micro SMD, 4-Leads, Body 1.45x0.96mm, Pitch 0.5mm, NSC Recommended)
pins: A1 GND (power), A2 EN (in), B1 OUT (power), B2 IN (power)

## LP3991TL-1.55/NOPB
designator U?
300mA Linear Voltage Regulator for Digital Applications, 4-pin Micro SMD, Pb-Free; PartNumber: LP3991TL-1.55/NOPB; Manufacturer: National Semiconductor; PackageTopMarking: X*I; PowerWise: N; CompType: LDO IC; High-Reliability: Y; DatasheetVersion: Sep-2008; PackageVersion: revD, Mar-2005; PackageReference: TLA04ZTA; PackageDescription: Thin Micro SMD, 4 Bump (Large), 0.5mm Pitch; RoHS: Y; PinCount: 4; Code_JEDEC: MO-211-BA; ComponentLink1Description: Manufacturer URL; ComponentLink1URL: http://www.national.com/; ComponentLink2Description: LP3991 Datasheet; ComponentLink2URL: http://www.national.com/ds/LP/LP3991.pdf; ComponentLink3Description: LP3991 Web Page; ComponentLink3URL: http://www.national.com/pf/LP/LP3991.html; ComponentLink4Description: TLA04ZTA Package Page; ComponentLink4URL: http://www.national.com/packaging/folders/tla04zta.html
footprint TLA04ZTA (Micro SMD, 4-Leads, Body 1.45x0.96mm, Pitch 0.5mm, NSC Recommended)
pins: A1 GND (power), A2 EN (in), B1 OUT (power), B2 IN (power)

## LP3991TL-2.0/NOPB
designator U?
300mA Linear Voltage Regulator for Digital Applications, 4-pin Micro SMD, Pb-Free; PartNumber: LP3991TL-2.0/NOPB; Manufacturer: National Semiconductor; PackageTopMarking: X*I; PowerWise: N; CompType: LDO IC; High-Reliability: Y; DatasheetVersion: Sep-2008; PackageVersion: revD, Mar-2005; PackageReference: TLA04ZTA; PackageDescription: Thin Micro SMD, 4 Bump (Large), 0.5mm Pitch; RoHS: Y; PinCount: 4; Code_JEDEC: MO-211-BA; ComponentLink1Description: Manufacturer URL; ComponentLink1URL: http://www.national.com/; ComponentLink2Description: LP3991 Datasheet; ComponentLink2URL: http://www.national.com/ds/LP/LP3991.pdf; ComponentLink3Description: LP3991 Web Page; ComponentLink3URL: http://www.national.com/pf/LP/LP3991.html; ComponentLink4Description: TLA04ZTA Package Page; ComponentLink4URL: http://www.national.com/packaging/folders/tla04zta.html
footprint TLA04ZTA (Micro SMD, 4-Leads, Body 1.45x0.96mm, Pitch 0.5mm, NSC Recommended)
pins: A1 GND (power), A2 EN (in), B1 OUT (power), B2 IN (power)

## LP3991TL-2.5/NOPB
designator U?
300mA Linear Voltage Regulator for Digital Applications, 4-pin Micro SMD, Pb-Free; PartNumber: LP3991TL-2.5/NOPB; Manufacturer: National Semiconductor; PackageTopMarking: X*I; PowerWise: N; CompType: LDO IC; High-Reliability: Y; DatasheetVersion: Sep-2008; PackageVersion: revD, Mar-2005; PackageReference: TLA04ZTA; PackageDescription: Thin Micro SMD, 4 Bump (Large), 0.5mm Pitch; RoHS: Y; PinCount: 4; Code_JEDEC: MO-211-BA; ComponentLink1Description: Manufacturer URL; ComponentLink1URL: http://www.national.com/; ComponentLink2Description: LP3991 Datasheet; ComponentLink2URL: http://www.national.com/ds/LP/LP3991.pdf; ComponentLink3Description: LP3991 Web Page; ComponentLink3URL: http://www.national.com/pf/LP/LP3991.html; ComponentLink4Description: TLA04ZTA Package Page; ComponentLink4URL: http://www.national.com/packaging/folders/tla04zta.html
footprint TLA04ZTA (Micro SMD, 4-Leads, Body 1.45x0.96mm, Pitch 0.5mm, NSC Recommended)
pins: A1 GND (power), A2 EN (in), B1 OUT (power), B2 IN (power)

## LP3991TL-2.8/NOPB
designator U?
300mA Linear Voltage Regulator for Digital Applications, 4-pin Micro SMD, Pb-Free; PartNumber: LP3991TL-2.8/NOPB; Manufacturer: National Semiconductor; PackageTopMarking: X*I; PowerWise: Y; CompType: LDO IC; DatasheetVersion: Sep-2008; PackageVersion: revD, Mar-2005; PackageReference: TLA04ZTA; PackageDescription: Thin Micro SMD, 4 Bump (Large), 0.5mm Pitch; RoHS: Y; PinCount: 4; High-Reliability: Y; Code_JEDEC: MO-211-BA; ComponentLink1Description: Manufacturer URL; ComponentLink1URL: http://www.national.com/; ComponentLink2Description: LP3991 Datasheet; ComponentLink2URL: http://www.national.com/ds/LP/LP3991.pdf; ComponentLink3Description: LP3991 Web Page; ComponentLink3URL: http://www.national.com/pf/LP/LP3991.html; ComponentLink4Description: TLA04ZTA Package Page; ComponentLink4URL: http://www.national.com/packaging/folders/tla04zta.html
footprint TLA04ZTA (Micro SMD, 4-Leads, Body 1.45x0.96mm, Pitch 0.5mm, NSC Recommended)
pins: A1 GND (power), A2 EN (in), B1 OUT (power), B2 IN (power)

## LP3991TL-3.0/NOPB
designator U?
300mA Linear Voltage Regulator for Digital Applications, 4-pin Micro SMD, Pb-Free; PartNumber: LP3991TL-3.0/NOPB; Manufacturer: National Semiconductor; PackageTopMarking: X*I; PowerWise: N; CompType: LDO IC; High-Reliability: Y; DatasheetVersion: Sep-2008; PackageVersion: revD, Mar-2005; PackageReference: TLA04ZTA; PackageDescription: Thin Micro SMD, 4 Bump (Large), 0.5mm Pitch; RoHS: Y; PinCount: 4; Code_JEDEC: MO-211-BA; ComponentLink1Description: Manufacturer URL; ComponentLink1URL: http://www.national.com/; ComponentLink2Description: LP3991 Datasheet; ComponentLink2URL: http://www.national.com/ds/LP/LP3991.pdf; ComponentLink3Description: LP3991 Web Page; ComponentLink3URL: http://www.national.com/pf/LP/LP3991.html; ComponentLink4Description: TLA04ZTA Package Page; ComponentLink4URL: http://www.national.com/packaging/folders/tla04zta.html
footprint TLA04ZTA (Micro SMD, 4-Leads, Body 1.45x0.96mm, Pitch 0.5mm, NSC Recommended)
pins: A1 GND (power), A2 EN (in), B1 OUT (power), B2 IN (power)

## LP3991TLX-0.8/NOPB
designator U?
300mA Linear Voltage Regulator for Digital Applications, 4-pin Micro SMD, Pb-Free; PartNumber: LP3991TLX-0.8/NOPB; Manufacturer: National Semiconductor; PackageTopMarking: X*I; PowerWise: N; CompType: LDO IC; High-Reliability: Y; DatasheetVersion: Sep-2008; PackageVersion: revD, Mar-2005; PackageReference: TLA04ZTA; PackageDescription: Thin Micro SMD, 4 Bump (Large), 0.5mm Pitch; RoHS: Y; PinCount: 4; Code_JEDEC: MO-211-BA; ComponentLink1Description: Manufacturer URL; ComponentLink1URL: http://www.national.com/; ComponentLink2Description: LP3991 Datasheet; ComponentLink2URL: http://www.national.com/ds/LP/LP3991.pdf; ComponentLink3Description: LP3991 Web Page; ComponentLink3URL: http://www.national.com/pf/LP/LP3991.html; ComponentLink4Description: TLA04ZTA Package Page; ComponentLink4URL: http://www.national.com/packaging/folders/tla04zta.html
footprint TLA04ZTA (Micro SMD, 4-Leads, Body 1.45x0.96mm, Pitch 0.5mm, NSC Recommended)
pins: A1 GND (power), A2 EN (in), B1 OUT (power), B2 IN (power)

## LP3991TLX-1.2/NOPB
designator U?
300mA Linear Voltage Regulator for Digital Applications, 4-pin Micro SMD, Pb-Free; PartNumber: LP3991TLX-1.2/NOPB; Manufacturer: National Semiconductor; PackageTopMarking: X*I; PowerWise: Y; CompType: LDO IC; DatasheetVersion: Sep-2008; PackageVersion: revD, Mar-2005; PackageReference: TLA04ZTA; PackageDescription: Thin Micro SMD, 4 Bump (Large), 0.5mm Pitch; RoHS: Y; PinCount: 4; High-Reliability: Y; Code_JEDEC: MO-211-BA; ComponentLink1Description: Manufacturer URL; ComponentLink1URL: http://www.national.com/; ComponentLink2Description: LP3991 Datasheet; ComponentLink2URL: http://www.national.com/ds/LP/LP3991.pdf; ComponentLink3Description: LP3991 Web Page; ComponentLink3URL: http://www.national.com/pf/LP/LP3991.html; ComponentLink4Description: TLA04ZTA Package Page; ComponentLink4URL: http://www.national.com/packaging/folders/tla04zta.html
footprint TLA04ZTA (Micro SMD, 4-Leads, Body 1.45x0.96mm, Pitch 0.5mm, NSC Recommended)
pins: A1 GND (power), A2 EN (in), B1 OUT (power), B2 IN (power)

## LP3991TLX-1.3/NOPB
designator U?
300mA Linear Voltage Regulator for Digital Applications, 4-pin Micro SMD, Pb-Free; PartNumber: LP3991TLX-1.3/NOPB; Manufacturer: National Semiconductor; PackageTopMarking: X*I; PowerWise: Y; CompType: LDO IC; DatasheetVersion: Sep-2008; PackageVersion: revD, Mar-2005; PackageReference: TLA04ZTA; PackageDescription: Thin Micro SMD, 4 Bump (Large), 0.5mm Pitch; RoHS: Y; PinCount: 4; High-Reliability: Y; Code_JEDEC: MO-211-BA; ComponentLink1Description: Manufacturer URL; ComponentLink1URL: http://www.national.com/; ComponentLink2Description: LP3991 Datasheet; ComponentLink2URL: http://www.national.com/ds/LP/LP3991.pdf; ComponentLink3Description: LP3991 Web Page; ComponentLink3URL: http://www.national.com/pf/LP/LP3991.html; ComponentLink4Description: TLA04ZTA Package Page; ComponentLink4URL: http://www.national.com/packaging/folders/tla04zta.html
footprint TLA04ZTA (Micro SMD, 4-Leads, Body 1.45x0.96mm, Pitch 0.5mm, NSC Recommended)
pins: A1 GND (power), A2 EN (in), B1 OUT (power), B2 IN (power)

## LP3991TLX-1.5/NOPB
designator U?
300mA Linear Voltage Regulator for Digital Applications, 4-pin Micro SMD, Pb-Free; PartNumber: LP3991TLX-1.5/NOPB; Manufacturer: National Semiconductor; PackageTopMarking: X*I; PowerWise: Y; CompType: LDO IC; DatasheetVersion: Sep-2008; PackageVersion: revD, Mar-2005; PackageReference: TLA04ZTA; PackageDescription: Thin Micro SMD, 4 Bump (Large), 0.5mm Pitch; RoHS: Y; PinCount: 4; High-Reliability: Y; Code_JEDEC: MO-211-BA; ComponentLink1Description: Manufacturer URL; ComponentLink1URL: http://www.national.com/; ComponentLink2Description: LP3991 Datasheet; ComponentLink2URL: http://www.national.com/ds/LP/LP3991.pdf; ComponentLink3Description: LP3991 Web Page; ComponentLink3URL: http://www.national.com/pf/LP/LP3991.html; ComponentLink4Description: TLA04ZTA Package Page; ComponentLink4URL: http://www.national.com/packaging/folders/tla04zta.html
footprint TLA04ZTA (Micro SMD, 4-Leads, Body 1.45x0.96mm, Pitch 0.5mm, NSC Recommended)
pins: A1 GND (power), A2 EN (in), B1 OUT (power), B2 IN (power)

## LP3991TLX-1.7/NOPB
designator U?
300mA Linear Voltage Regulator for Digital Applications, 4-pin Micro SMD, Pb-Free; PartNumber: LP3991TLX-1.7/NOPB; Manufacturer: National Semiconductor; PackageTopMarking: X*I; PowerWise: N; CompType: LDO IC; High-Reliability: Y; DatasheetVersion: Sep-2008; PackageVersion: revD, Mar-2005; PackageReference: TLA04ZTA; PackageDescription: Thin Micro SMD, 4 Bump (Large), 0.5mm Pitch; RoHS: Y; PinCount: 4; Code_JEDEC: MO-211-BA; ComponentLink1Description: Manufacturer URL; ComponentLink1URL: http://www.national.com/; ComponentLink2Description: LP3991 Datasheet; ComponentLink2URL: http://www.national.com/ds/LP/LP3991.pdf; ComponentLink3Description: LP3991 Web Page; ComponentLink3URL: http://www.national.com/pf/LP/LP3991.html; ComponentLink4Description: TLA04ZTA Package Page; ComponentLink4URL: http://www.national.com/packaging/folders/tla04zta.html
footprint TLA04ZTA (Micro SMD, 4-Leads, Body 1.45x0.96mm, Pitch 0.5mm, NSC Recommended)
pins: A1 GND (power), A2 EN (in), B1 OUT (power), B2 IN (power)

## LP3991TLX-1.8/NOPB
designator U?
300mA Linear Voltage Regulator for Digital Applications, 4-pin Micro SMD, Pb-Free; PartNumber: LP3991TLX-1.8/NOPB; Manufacturer: National Semiconductor; PackageTopMarking: X*I; PowerWise: N; CompType: LDO IC; High-Reliability: Y; DatasheetVersion: Sep-2008; PackageVersion: revD, Mar-2005; PackageReference: TLA04ZTA; PackageDescription: Thin Micro SMD, 4 Bump (Large), 0.5mm Pitch; RoHS: Y; PinCount: 4; Code_JEDEC: MO-211-BA; ComponentLink1Description: Manufacturer URL; ComponentLink1URL: http://www.national.com/; ComponentLink2Description: LP3991 Datasheet; ComponentLink2URL: http://www.national.com/ds/LP/LP3991.pdf; ComponentLink3Description: LP3991 Web Page; ComponentLink3URL: http://www.national.com/pf/LP/LP3991.html; ComponentLink4Description: TLA04ZTA Package Page; ComponentLink4URL: http://www.national.com/packaging/folders/tla04zta.html
footprint TLA04ZTA (Micro SMD, 4-Leads, Body 1.45x0.96mm, Pitch 0.5mm, NSC Recommended)
pins: A1 GND (power), A2 EN (in), B1 OUT (power), B2 IN (power)

## LP3991TLX-1.55/NOPB
designator U?
300mA Linear Voltage Regulator for Digital Applications, 4-pin Micro SMD, Pb-Free; PartNumber: LP3991TLX-1.55/NOPB; Manufacturer: National Semiconductor; PackageTopMarking: X*I; PowerWise: N; CompType: LDO IC; High-Reliability: Y; DatasheetVersion: Sep-2008; PackageVersion: revD, Mar-2005; PackageReference: TLA04ZTA; PackageDescription: Thin Micro SMD, 4 Bump (Large), 0.5mm Pitch; RoHS: Y; PinCount: 4; Code_JEDEC: MO-211-BA; ComponentLink1Description: Manufacturer URL; ComponentLink1URL: http://www.national.com/; ComponentLink2Description: LP3991 Datasheet; ComponentLink2URL: http://www.national.com/ds/LP/LP3991.pdf; ComponentLink3Description: LP3991 Web Page; ComponentLink3URL: http://www.national.com/pf/LP/LP3991.html; ComponentLink4Description: TLA04ZTA Package Page; ComponentLink4URL: http://www.national.com/packaging/folders/tla04zta.html
footprint TLA04ZTA (Micro SMD, 4-Leads, Body 1.45x0.96mm, Pitch 0.5mm, NSC Recommended)
pins: A1 GND (power), A2 EN (in), B1 OUT (power), B2 IN (power)

## LP3991TLX-2.0/NOPB
designator U?
300mA Linear Voltage Regulator for Digital Applications, 4-pin Micro SMD, Pb-Free; PartNumber: LP3991TLX-2.0/NOPB; Manufacturer: National Semiconductor; PackageTopMarking: X*I; PowerWise: N; CompType: LDO IC; High-Reliability: Y; DatasheetVersion: Sep-2008; PackageVersion: revD, Mar-2005; PackageReference: TLA04ZTA; PackageDescription: Thin Micro SMD, 4 Bump (Large), 0.5mm Pitch; RoHS: Y; PinCount: 4; Code_JEDEC: MO-211-BA; ComponentLink1Description: Manufacturer URL; ComponentLink1URL: http://www.national.com/; ComponentLink2Description: LP3991 Datasheet; ComponentLink2URL: http://www.national.com/ds/LP/LP3991.pdf; ComponentLink3Description: LP3991 Web Page; ComponentLink3URL: http://www.national.com/pf/LP/LP3991.html; ComponentLink4Description: TLA04ZTA Package Page; ComponentLink4URL: http://www.national.com/packaging/folders/tla04zta.html
footprint TLA04ZTA (Micro SMD, 4-Leads, Body 1.45x0.96mm, Pitch 0.5mm, NSC Recommended)
pins: A1 GND (power), A2 EN (in), B1 OUT (power), B2 IN (power)

## LP3991TLX-2.5/NOPB
designator U?
300mA Linear Voltage Regulator for Digital Applications, 4-pin Micro SMD, Pb-Free; PartNumber: LP3991TLX-2.5/NOPB; Manufacturer: National Semiconductor; PackageTopMarking: X*I; PowerWise: N; CompType: LDO IC; High-Reliability: Y; DatasheetVersion: Sep-2008; PackageVersion: revD, Mar-2005; PackageReference: TLA04ZTA; PackageDescription: Thin Micro SMD, 4 Bump (Large), 0.5mm Pitch; RoHS: Y; PinCount: 4; Code_JEDEC: MO-211-BA; ComponentLink1Description: Manufacturer URL; ComponentLink1URL: http://www.national.com/; ComponentLink2Description: LP3991 Datasheet; ComponentLink2URL: http://www.national.com/ds/LP/LP3991.pdf; ComponentLink3Description: LP3991 Web Page; ComponentLink3URL: http://www.national.com/pf/LP/LP3991.html; ComponentLink4Description: TLA04ZTA Package Page; ComponentLink4URL: http://www.national.com/packaging/folders/tla04zta.html
footprint TLA04ZTA (Micro SMD, 4-Leads, Body 1.45x0.96mm, Pitch 0.5mm, NSC Recommended)
pins: A1 GND (power), A2 EN (in), B1 OUT (power), B2 IN (power)

## LP3991TLX-2.8/NOPB
designator U?
300mA Linear Voltage Regulator for Digital Applications, 4-pin Micro SMD, Pb-Free; PartNumber: LP3991TLX-2.8/NOPB; Manufacturer: National Semiconductor; PackageTopMarking: X*I; PowerWise: Y; CompType: LDO IC; DatasheetVersion: Sep-2008; PackageVersion: revD, Mar-2005; PackageReference: TLA04ZTA; PackageDescription: Thin Micro SMD, 4 Bump (Large), 0.5mm Pitch; RoHS: Y; PinCount: 4; High-Reliability: Y; Code_JEDEC: MO-211-BA; ComponentLink1Description: Manufacturer URL; ComponentLink1URL: http://www.national.com/; ComponentLink2Description: LP3991 Datasheet; ComponentLink2URL: http://www.national.com/ds/LP/LP3991.pdf; ComponentLink3Description: LP3991 Web Page; ComponentLink3URL: http://www.national.com/pf/LP/LP3991.html; ComponentLink4Description: TLA04ZTA Package Page; ComponentLink4URL: http://www.national.com/packaging/folders/tla04zta.html
footprint TLA04ZTA (Micro SMD, 4-Leads, Body 1.45x0.96mm, Pitch 0.5mm, NSC Recommended)
pins: A1 GND (power), A2 EN (in), B1 OUT (power), B2 IN (power)

## LP3991TLX-3.0/NOPB
designator U?
300mA Linear Voltage Regulator for Digital Applications, 4-pin Micro SMD, Pb-Free; PartNumber: LP3991TLX-3.0/NOPB; Manufacturer: National Semiconductor; PackageTopMarking: X*I; PowerWise: N; CompType: LDO IC; High-Reliability: Y; DatasheetVersion: Sep-2008; PackageVersion: revD, Mar-2005; PackageReference: TLA04ZTA; PackageDescription: Thin Micro SMD, 4 Bump (Large), 0.5mm Pitch; RoHS: Y; PinCount: 4; Code_JEDEC: MO-211-BA; ComponentLink1Description: Manufacturer URL; ComponentLink1URL: http://www.national.com/; ComponentLink2Description: LP3991 Datasheet; ComponentLink2URL: http://www.national.com/ds/LP/LP3991.pdf; ComponentLink3Description: LP3991 Web Page; ComponentLink3URL: http://www.national.com/pf/LP/LP3991.html; ComponentLink4Description: TLA04ZTA Package Page; ComponentLink4URL: http://www.national.com/packaging/folders/tla04zta.html
footprint TLA04ZTA (Micro SMD, 4-Leads, Body 1.45x0.96mm, Pitch 0.5mm, NSC Recommended)
pins: A1 GND (power), A2 EN (in), B1 OUT (power), B2 IN (power)

## LP3992IMFX-1.5
designator U?
Micropower 1.5V CMOS Voltage Regulator with Shutdown Control, 5-pin SOT-23; PartNumber: LP3992IMFX-1.5; Manufacturer: National Semiconductor; PackageTopMarking: LFHB*XTT; PowerWise: N; CompType: LDO IC; High-Reliability: Y; DatasheetVersion: Dec-2002; PackageVersion: revD, Aug-2008; PackageReference: MF05A; PackageDescription: Molded SOT-23, .115 x .063 x .040 in Body, 5 Lead, .0375 in Pitch; RoHS: N; PinCount: 5; ComponentLink1Description: Manufacturer URL; ComponentLink1URL: http://www.national.com/; ComponentLink2Description: LP3992 Datasheet; ComponentLink2URL: http://www.national.com/ds/LP/LP3992.pdf; ComponentLink3Description: LP3992 Web Page; ComponentLink3URL: http://www.national.com/pf/LP/LP3992.html; ComponentLink4Description: MF05A Package Page; ComponentLink4URL: http://www.national.com/packaging/folders/mf05a.html
footprint MF05A_N (SOT23, 5-Leads, Body 2.9x1.6mm, Pitch 0.95mm, Lead Span 2.8mm, IPC Medium Density)
footprint MF05A_L (SOT23, 5-Leads, Body 2.9x1.6mm, Pitch 0.95mm, Lead Span 2.8mm, IPC High Density)
footprint MF05A_M (SOT23, 5-Leads, Body 2.9x1.6mm, Pitch 0.95mm, Lead Span 2.8mm, IPC Low Density)
pins: 1 IN (power), 2 GND (power), 3 ~{SD} (in), 4 COUT, 5 OUT (power)

## LP3992IMFX-1.5/NOPB
designator U?
Micropower 1.5V CMOS Voltage Regulator with Shutdown Control, 5-pin SOT-23, Pb-Free; PartNumber: LP3992IMFX-1.5/NOPB; Manufacturer: National Semiconductor; PackageTopMarking: LFHB*XTT; PowerWise: N; CompType: LDO IC; High-Reliability: Y; DatasheetVersion: Dec-2002; PackageVersion: revD, Aug-2008; PackageReference: MF05A; PackageDescription: Molded SOT-23, .115 x .063 x .040 in Body, 5 Lead, .0375 in Pitch; RoHS: Y; PinCount: 5; ComponentLink1Description: Manufacturer URL; ComponentLink1URL: http://www.national.com/; ComponentLink2Description: LP3992 Datasheet; ComponentLink2URL: http://www.national.com/ds/LP/LP3992.pdf; ComponentLink3Description: LP3992 Web Page; ComponentLink3URL: http://www.national.com/pf/LP/LP3992.html; ComponentLink4Description: MF05A Package Page; ComponentLink4URL: http://www.national.com/packaging/folders/mf05a.html
footprint MF05A_N (SOT23, 5-Leads, Body 2.9x1.6mm, Pitch 0.95mm, Lead Span 2.8mm, IPC Medium Density)
footprint MF05A_L (SOT23, 5-Leads, Body 2.9x1.6mm, Pitch 0.95mm, Lead Span 2.8mm, IPC High Density)
footprint MF05A_M (SOT23, 5-Leads, Body 2.9x1.6mm, Pitch 0.95mm, Lead Span 2.8mm, IPC Low Density)
pins: 1 IN (power), 2 GND (power), 3 ~{SD} (in), 4 COUT, 5 OUT (power)

## LP3995ILD-1.5
designator U?
Micropower 150mA CMOS Voltage Regulator with Active Shutdown., 6-pin LLP; PartNumber: LP3995ILD-1.5; Manufacturer: National Semiconductor; PackageTopMarking: ZXYTT*L020B; PowerWise: N; CompType: LDO IC; High-Reliability: Y; DatasheetVersion: Jan-2008; PackageVersion: revA, Jul-2001; PackageReference: LDE06A; PackageDescription: LLP, Plastic, Dual, 2.92 x 3.29 x 0.75mm Body, 6 Lead, 0.95mm Pitch, SOT23 Land; RoHS: N; PinCount: 6; ComponentLink1Description: Manufacturer URL; ComponentLink1URL: http://www.national.com/; ComponentLink2Description: LP3995 Datasheet; ComponentLink2URL: http://www.national.com/ds/LP/LP3995.pdf; ComponentLink3Description: LP3995 Web Page; ComponentLink3URL: http://www.national.com/pf/LP/LP3995.html; ComponentLink4Description: LDE06A Package Page; ComponentLink4URL: http://www.national.com/packaging/folders/lde06a.html
footprint LDE06A (PSON, 6-Leads, Body 2.92x3.29 mm, Pitch 0.95mm, NSC Recommended)
pins: 1 IN (power), 2 GND (power), 3 EN (in), 4 CBYP, 5 NC, 6 OUT (power), 7 DAP (power)

## LP3995ILD-1.5/NOPB
designator U?
Micropower 150mA CMOS Voltage Regulator with Active Shutdown., 6-pin LLP, Pb-Free; PartNumber: LP3995ILD-1.5/NOPB; Manufacturer: National Semiconductor; PackageTopMarking: ZXYTT*L020B; PowerWise: N; CompType: LDO IC; High-Reliability: Y; DatasheetVersion: Jan-2008; PackageVersion: revA, Jul-2001; PackageReference: LDE06A; PackageDescription: LLP, Plastic, Dual, 2.92 x 3.29 x 0.75mm Body, 6 Lead, 0.95mm Pitch, SOT23 Land; RoHS: Y; PinCount: 6; ComponentLink1Description: Manufacturer URL; ComponentLink1URL: http://www.national.com/; ComponentLink2Description: LP3995 Datasheet; ComponentLink2URL: http://www.national.com/ds/LP/LP3995.pdf; ComponentLink3Description: LP3995 Web Page; ComponentLink3URL: http://www.national.com/pf/LP/LP3995.html; ComponentLink4Description: LDE06A Package Page; ComponentLink4URL: http://www.national.com/packaging/folders/lde06a.html
footprint LDE06A (PSON, 6-Leads, Body 2.92x3.29 mm, Pitch 0.95mm, NSC Recommended)
pins: 1 IN (power), 2 GND (power), 3 EN (in), 4 CBYP, 5 NC, 6 OUT (power), 7 DAP (power)

## LP3995ILD-1.8
designator U?
Micropower 150mA CMOS Voltage Regulator with Active Shutdown., 6-pin LLP; PartNumber: LP3995ILD-1.8; Manufacturer: National Semiconductor; PackageTopMarking: ZXYTT*L022B; PowerWise: N; CompType: LDO IC; High-Reliability: Y; DatasheetVersion: Jan-2008; PackageVersion: revA, Jul-2001; PackageReference: LDE06A; PackageDescription: LLP, Plastic, Dual, 2.92 x 3.29 x 0.75mm Body, 6 Lead, 0.95mm Pitch, SOT23 Land; RoHS: N; PinCount: 6; ComponentLink1Description: Manufacturer URL; ComponentLink1URL: http://www.national.com/; ComponentLink2Description: LP3995 Datasheet; ComponentLink2URL: http://www.national.com/ds/LP/LP3995.pdf; ComponentLink3Description: LP3995 Web Page; ComponentLink3URL: http://www.national.com/pf/LP/LP3995.html; ComponentLink4Description: LDE06A Package Page; ComponentLink4URL: http://www.national.com/packaging/folders/lde06a.html
footprint LDE06A (PSON, 6-Leads, Body 2.92x3.29 mm, Pitch 0.95mm, NSC Recommended)
pins: 1 IN (power), 2 GND (power), 3 EN (in), 4 CBYP, 5 NC, 6 OUT (power), 7 DAP (power)